# EAGLE library part 1571999-9 (library Switches)
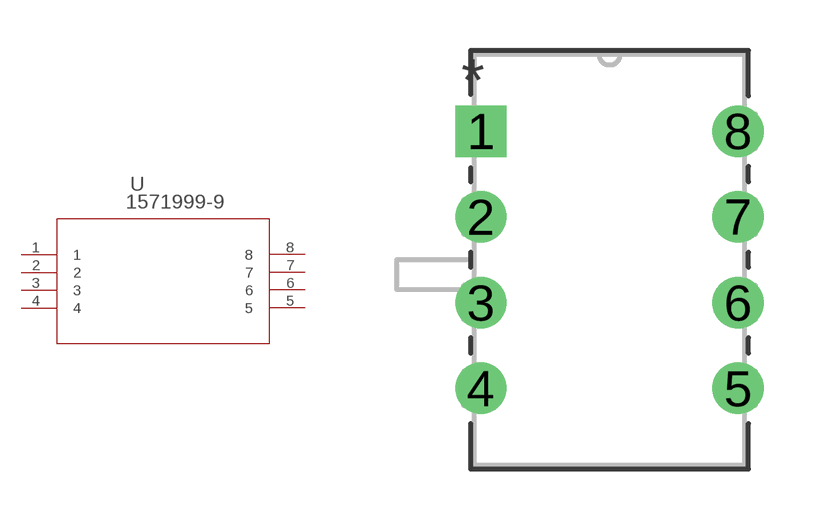
[diagram p20: symbol with the pads of SWITCH_1571999-9; footprint SWITCH_1571999-9]

Designator prefix U

## 1571999-9 (BUILT_BY: EMA_UL_Team; CATEGORY: DIP & SIP Switches; COPYRIGHT: Copyright (C) 2016 Accelerated Designs. All rights reserved; DESCRIPTION: ADP04STR04=PIANO DIP SWITCH; MANUFACTURER_PART_NUMBER: 1571999-9; PART_STATUS: active; SERIES: Alcoswitch DIP,Alcoswitch DIP ADP & ADPA; VENDOR: TE Connectivity)  [SWITCH_1571999-9]
1  1  pas
2  2  pas
3  3  pas
4  4  pas
5  5  pas
6  6  pas
7  7  pas
8  8  pas

## Footprint SWITCH_1571999-9 (pad centres in mm)
drill 1.016 pad 1.524 square: 1 -7.62,7.62
drill 1.016 pad 1.524: 2 -7.62,5.08; 3 -7.62,2.54; 4 -7.62,0; 5 0,0; 6 0,2.54; 7 0,5.08; 8 0,7.62